# Altium footprint library SIM_CARD_MOLEX-475530001.PcbLib: 1 footprints
Each footprint in its own frame and in the unit in brackets; x right, y up, seen from the top. Pads: shape width x height; smd on the part's side, far side on the other; paste and mask are expansions set on the pad; w line width, h text height; cw(c..) or ccw(c..) is an arc to the next point about the centre after c.
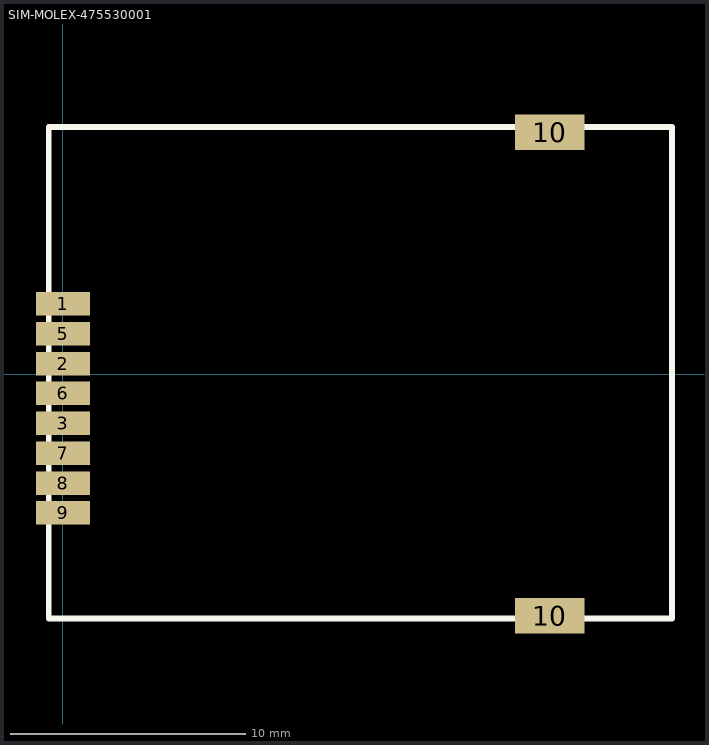
[diagram p0: the footprint, top view; thin cyan lines are the x and y axes]

## SIM-MOLEX-475530001 [mm]
pads (10):
  rect 2.3x1 smd: 1(0,2.985) 2(0,0.445) 3(0,-2.095) 5(0,1.715) 6(0,-0.825) 7(0,-3.365) 8(0,-4.635) 9(0,-5.905)
  rect 2.95x1.5 smd: 10(20.7,-10.275) 10(20.7,10.275)
Top Overlay:
  lines w0.254: -0.6,-10.4 -0.6,10.5 25.9,10.5 25.9,-10.4 -0.6,-10.4
3D body "SIM-MOLEX-475530001.stp": height 1.82, standoff -0.01, extent -0.55,-10.425 25.95,10.525